# EAGLE library part PIXLITE (library flexipanel)
PIC microcontroller with 2.4GHz IEEE 802.15.4 transceiver and ZigBee stack Source: www.FlexiPanel.com .. Pixie DS481.pdf
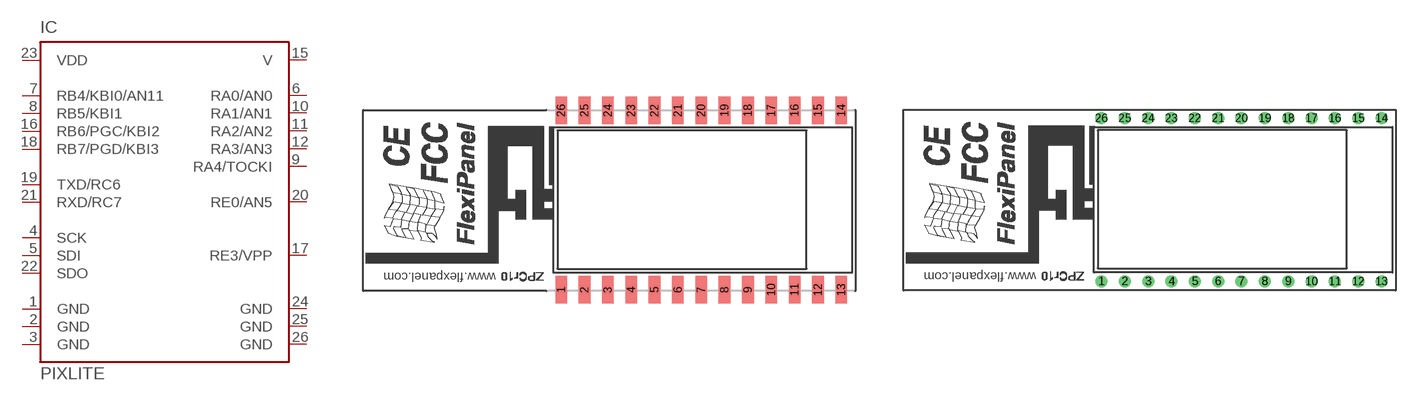
[diagram p0: symbol with the pads of PIXIE_20DS481; footprints PIXIE_20DS481, PIXIE_20DS481-DIL]

Designator prefix IC

## PIXLITE-SO (OC_FARNELL: unknown; OC_NEWARK: unknown)  [PIXIE_20DS481]
1  GND  pwr
2  GND  pwr
3  GND  pwr
4  SCK
5  SDI
6  RA0/AN0
7  RB4/KBI0/AN11
8  RB5/KBI1
9  RA4/TOCKI
10  RA1/AN1
11  RA2/AN2
12  RA3/AN3
15  V  in
16  RB6/PGC/KBI2
17  RE3/VPP  in
18  RB7/PGD/KBI3
19  TXD/RC6
20  RE0/AN5
21  RXD/RC7
22  SDO
23  VDD  pwr
24  GND  pwr
25  GND  pwr
26  GND  pwr

## PIXLITE-DIL  [PIXIE_20DS481-DIL]
Pads as for PIXIE_20DS481

## Footprint PIXIE_20DS481 (pad centres in mm)
PIC microcontroller with 2.4GHz IEEE 802.15.4 transceiver and ZigBee stack Source: www.FlexiPanel.com .. Pixie DS481.pdf
smd 1.27 x 3: 1 -15.24,-9.761; 2 -12.7,-9.761; 3 -10.16,-9.761; 4 -7.62,-9.761; 5 -5.08,-9.761; 6 -2.54,-9.761; 7 0,-9.761; 8 2.54,-9.761; 9 5.08,-9.761; 10 7.62,-9.761; 11 10.16,-9.761; 12 12.7,-9.761; 13 15.24,-9.761; 14 15.24,9.761; 15 12.7,9.761; 16 10.16,9.761; 17 7.62,9.761; 18 5.08,9.761; 19 2.54,9.761; 20 0,9.761; 21 -2.54,9.761; 22 -5.08,9.761; 23 -7.62,9.761; 24 -10.16,9.761; 25 -12.7,9.761; 26 -15.24,9.761

## Footprint PIXIE_20DS481-DIL (pad centres in mm)
PIC microcontroller with 2.4GHz IEEE 802.15.4 transceiver and ZigBee stack Source: www.FlexiPanel.com .. Pixie DS481.pdf
drill 0.8 pad 1.27: 1 -15.24,-8.89; 2 -12.7,-8.89; 3 -10.16,-8.89; 4 -7.62,-8.89; 5 -5.08,-8.89; 6 -2.54,-8.89; 7 0,-8.89; 8 2.54,-8.89; 9 5.08,-8.89; 10 7.62,-8.89; 11 10.16,-8.89; 12 12.7,-8.89; 13 15.24,-8.89; 14 15.24,8.89; 15 12.7,8.89; 16 10.16,8.89; 17 7.62,8.89; 18 5.08,8.89; 19 2.54,8.89; 20 0,8.89; 21 -2.54,8.89; 22 -5.08,8.89; 23 -7.62,8.89; 24 -10.16,8.89; 25 -12.7,8.89; 26 -15.24,8.89